# Altium footprint library transistor-fet.PCBLIB: 45 footprints (part 2 of 3)
Each footprint in its own frame and in the unit in brackets; x right, y up, seen from the top. Pads: shape width x height; smd on the part's side, far side on the other; paste and mask are expansions set on the pad; w line width, h text height; cw(c..) or ccw(c..) is an arc to the next point about the centre after c.
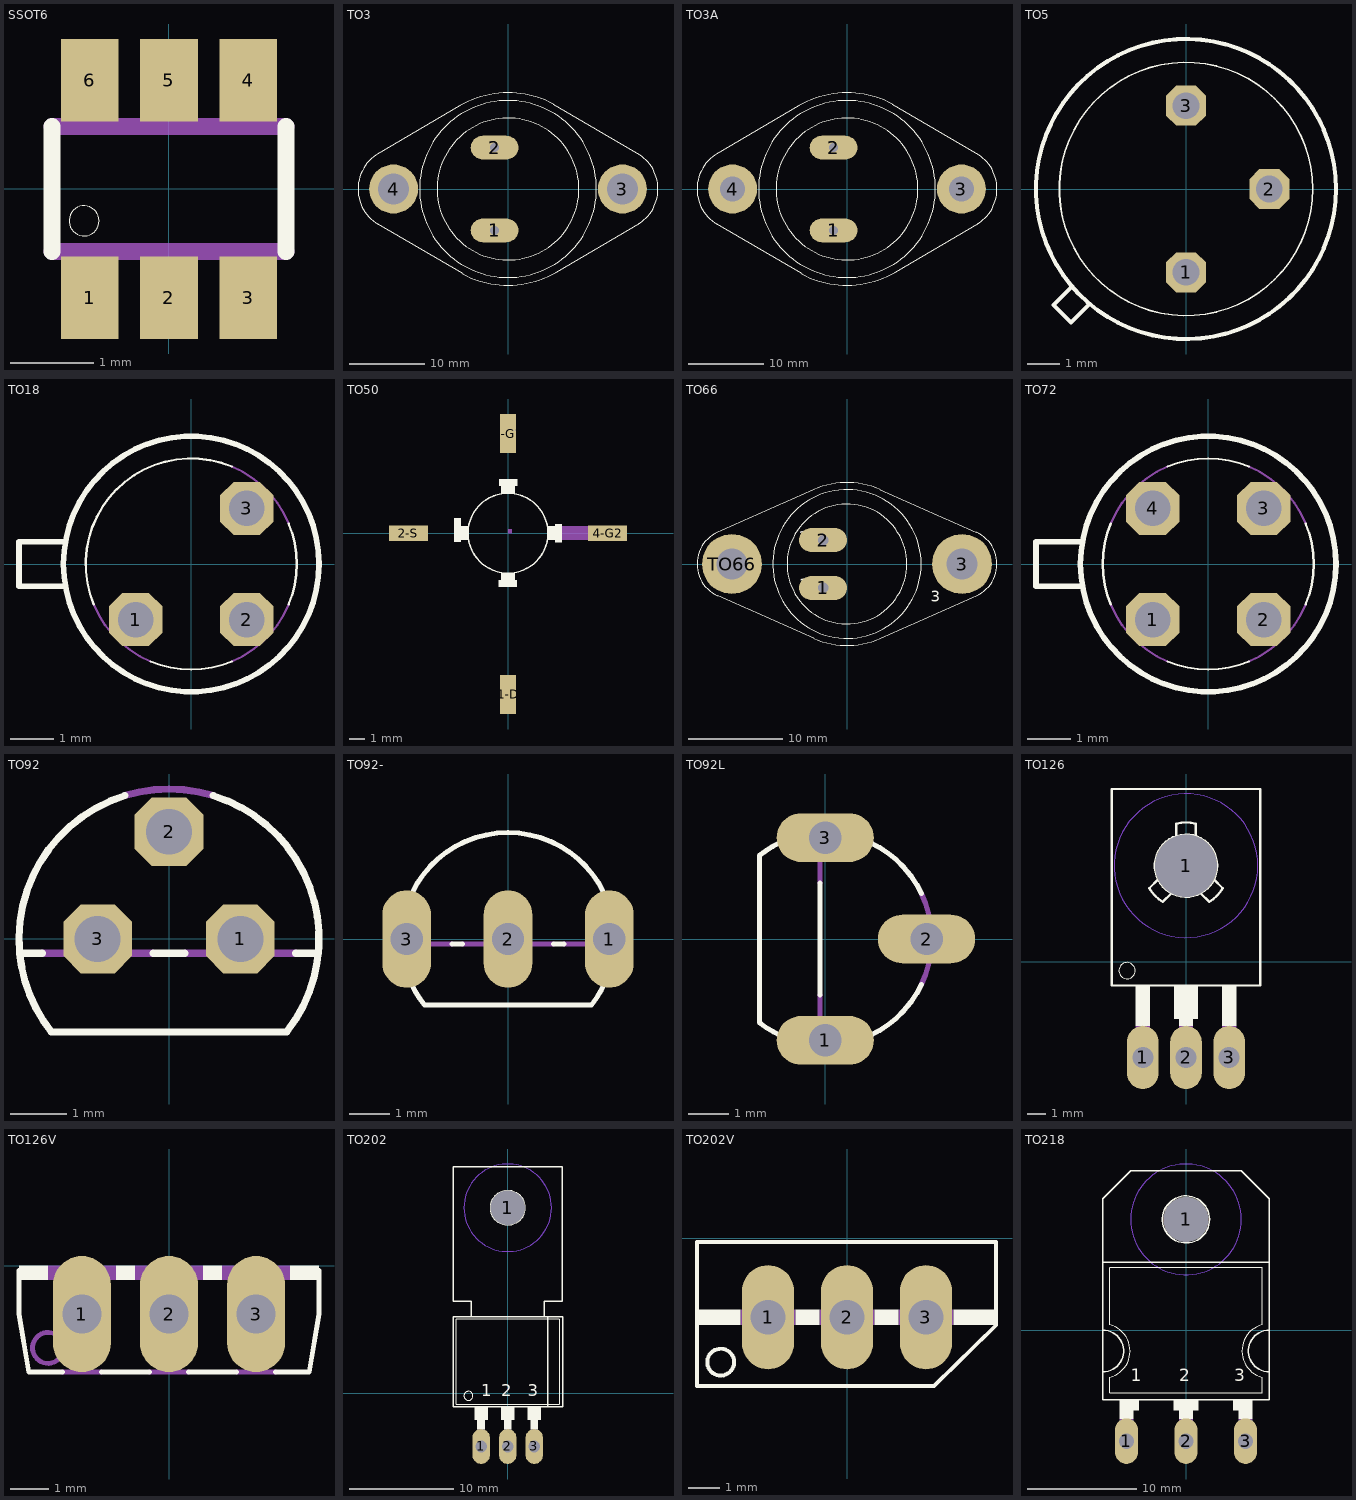
[diagram p1: the footprints below, top view; thin cyan lines are the x and y axes]

## SSOT6 [mil]
pads (6):
  rect 27.17x38.98 smd: 1(-37.4,-51.18) 2(0,-51.18) 3(37.4,-51.18) 4(37.4,51.18) 5(0,51.18) 6(-37.4,51.18)
Top Overlay:
  circle w0: c-40,-15 r7.07
  lines w8: -55.12,-29.53 -55.12,29.53 ; 55.12,-29.53 55.12,29.53
Mechanical 16:
  rectangle: -47.24,-59.06 -27.56,-31.5
  rectangle: -9.84,-59.06 9.84,-31.5
  rectangle: 27.56,-59.06 47.24,-31.5
  region: 47.24,59.06 27.56,59.06 27.56,31.5 47.24,31.5
  region: 9.84,59.06 -9.84,59.06 -9.84,31.5 9.84,31.5
  region: -27.56,59.06 -47.24,59.06 -47.24,31.5 -27.56,31.5
  lines w8: -55.12,-29.53 55.12,-29.53 ; -55.12,29.53 55.12,29.53

## TO3 [mil]
pads (4):
  oval 248x124 hole 47: 1(-70,-215) 2(-70,215)
  round 255 hole 162: 3(595,0) 4(-595,0)
Top Overlay:
  circle w5: c0,0 r369
  circle w2: c0,0 r460
  lines w5: -680,180 -250,433 ; -679,-181 -234,-442 ; -675.41,-183.35 cw(c-567,0) -780,0 cw(c-567,0) -672.94,184.78 ; -250.86,432.52 cw(c-0.01,0) 0,500 cw(c0.01,-0.01) 235.3,441.18 ; -235.3,-441.18 ccw(c-0.01,0.01) 0,-500 ccw(c0.01,0) 250.86,-432.52 ; 235,441 684,178 ; 251,-433 684,-178 ; 682.54,-178.94 ccw(c567,0) 780,0 ccw(c567,0) 682.54,178.94
Mechanical 16:
  circle w5: c595,0 r85
  circle w5: c-595,0 r85
  text "3" at 600,-195 h77.5
  text "1" at -200,-145 h77.5
  text "2" at -200,130 h77.5
  text "4" at -550,-195 h77.5

## TO3A [mil]
pads (4):
  oval 248x124 hole 47: 1(-70,-215) 2(-70,215)
  round 255 hole 130: 3(595,0) 4(-595,0)
Top Overlay:
  circle w5: c0,0 r369
  circle w2: c0,0 r460
  lines w5: -680,180 -250,433 ; -679,-181 -234,-442 ; -675.41,-183.35 cw(c-567,0) -780,0 cw(c-567,0) -672.94,184.78 ; -250.86,432.52 cw(c-0.01,0) 0,500 cw(c0.01,-0.01) 235.3,441.18 ; -235.3,-441.18 ccw(c-0.01,0.01) 0,-500 ccw(c0.01,0) 250.86,-432.52 ; 235,441 684,178 ; 251,-433 684,-178 ; 682.54,-178.94 ccw(c567,0) 780,0 ccw(c567,0) 682.54,178.94
Mechanical 16:
  circle w5: c595,0 r85
  circle w5: c-595,0 r85
  text "3" at 600,-195 h77.5
  text "2" at -150,180 h77.5
  text "1" at -150,-245 h77.5
  text "4" at -550,-195 h77.5

## TO5 [mil]
pads (3):
  oct 48x48 hole 32: 1(0,-100) 2(100,0) 3(0,100)
Top Overlay:
  circle w5: c0,0 r180
  circle w2: c0,0 r152
  lines w5: -138,-118 -159,-139 -138,-160 -117,-139

## TO18 [mil]
pads (3):
  oct 48x48 hole 32: 1(-50,-50) 2(50,-50) 3(50,50)
Top Overlay:
  circle w5: c0,0 r115
  lines w2: -87.68,-36.57 cw(c0,0) 36.57,87.68 ; -36.57,-87.68 ccw(c0,0) 36.57,-87.68 ; 87.68,-36.57 ccw(c0,0) 87.68,36.57
  lines w5: -113.25,-20 -155,-20 -155,20 -113.25,20
Mechanical 16:
  lines w2: -87.68,-36.57 ccw(c0,0) -36.57,-87.68 ; 36.57,-87.68 ccw(c0,0) 87.68,-36.57 ; 36.57,87.68 cw(c0,0) 87.68,36.57
  text "1" at -75,-50 h77.5
  text "2" at 25,-50 h77.5
  text "3" at 0,25 h77.5

## TO50 [mm]
pads (4):
  rect 1x2.5 smd: 1-D(0,-10.285) 3-G1(0,6.35)
  rect 2.5x1 smd: 2-S(-6.35,0) 4-G2(6.35,0)
Top Overlay:
  circle w0.102: c0,0 r2.55
  region: -3,0.975 -3.45,0.975 -3.45,-0.575 -3,-0.575
  rectangle: -3.025,-0.45 -2.55,0.45
  region: -0.6,-3 -0.6,-3.45 0.575,-3.45 0.575,-3
  region: 0.45,-3.025 0.45,-2.55 -0.45,-2.55 -0.45,-3.025
  region: -0.225,3.025 -0.225,2.55 0.225,2.55 0.225,3.025
  rectangle: 3,-0.6 3.45,0.575
  region: 3.025,0.45 2.55,0.45 2.55,-0.45 3.025,-0.45
  region: 0.6,3 0.6,3.45 -0.575,3.45 -0.575,3
  region: -0.45,3.025 -0.45,2.55 0.45,2.55 0.45,3.025
Mechanical 16:
  region: 7.55,0.45 3.35,0.45 3.35,-0.45 7.55,-0.45
  region: 0,0 0.254,0 0.254,0.254 0,0.254
  region: 0,0 0.254,0 0.254,0.254 0,0.254
  region: 0,0 0.254,0 0.254,0.254 0,0.254

## TO66 [mil]
pads (4):
  oval 200x100 hole 44: 1(-100,-100) 2(-100,100)
  round 250 hole 130: 3(480,0) TO66(-480,0)
Top Overlay:
  circle w2: c0,0 r310
  circle w5: c0,0 r250
  lines w5: -539.78,-132.55 cw(c-481,0) -539.78,132.55 -137.84,310.81 cw(c0,0) 137.84,310.81 539.78,132.55 cw(c481,0) 539.78,-132.55 137.84,-310.81 cw(c0,0) -137.84,-310.81 -539.78,-132.55
  text "3" at 350,-175 h77.5
  text "2" at -200,75 h77.5
  text "1" at -200,-125 h77.5
Mechanical 16:
  circle w5: c-480,0 r75
  circle w5: c480,0 r75

## TO72 [mil]
pads (4):
  oct 48x48 hole 32: 1(-50,-50) 2(50,-50) 3(50,50) 4(-50,50)
Top Overlay:
  circle w5: c0,0 r115
  lines w2: -87.68,-36.57 cw(c0,0) -87.68,36.57 ; -36.57,-87.68 ccw(c0,0) 36.57,-87.68 ; -36.57,87.68 cw(c0,0) 36.57,87.68 ; 87.68,-36.57 ccw(c0,0) 87.68,36.57
  lines w5: -114,-20 -155,-20 -155,20 -114,20
Mechanical 16:
  lines w2: -87.68,-36.57 ccw(c0,0) -36.57,-87.68 ; -87.68,36.57 cw(c0,0) -36.57,87.68 ; 36.57,-87.68 ccw(c0,0) 87.68,-36.57 ; 36.57,87.68 cw(c0,0) 87.68,36.57
  text "1" at -65,-65 h77.5
  text "2" at 20,-65 h77.5
  text "3" at 20,15 h77.5
  text "4" at -65,15 h77.5

## TO92 [mil]
pads (3):
  oct 48x48 hole 32: 1(50,0) 2(0,75) 3(-50,0)
Top Overlay:
  lines w5: -88.73,-10 -104.52,-10 ; -30.96,100.33 ccw(c0,0) -104.52,-10 ; -11.27,-10 11.27,-10 ; 30.96,100.33 cw(c0,0) 82.46,-65 -82.46,-65 cw(c0,0) -104.52,-10 ; 88.73,-10 104.52,-10
Mechanical 16:
  lines w5: -88.73,-10 -11.27,-10 ; -30.96,100.33 cw(c0,-0.02) 30.96,100.33 ; 11.27,-10 88.73,-10
  text "2" at -25,25 h77.5
  text "3" at -85,0 h77.5
  text "1" at 45,0 h77.5

## TO92- [mil]
pads (3):
  oval 48x96 hole 32: 1(100,0) 2(0,0) 3(-100,0)
Top Overlay:
  lines w5: -95,-44.72 ccw(c0,0.01) -82.46,-65 82.46,-65 ccw(c-0.01,0) 95.44,-43.77 ; -95,44.72 cw(c0,0) 95,44.72 ; -55.28,-5 -44.72,-5 ; 44.72,-5 55.28,-5
Mechanical 16:
  lines w5: -95,-44.72 cw(c0,0) -104.88,-5 ; -95,44.72 ccw(c0,0) -104.88,-5 ; -55.28,-5 -104.88,-5 ; -44.72,-5 44.72,-5 ; 55.28,-5 104.88,-5 ; 95,-44.72 ccw(c0,0) 104.88,-5 ; 95,44.72 cw(c0,0) 104.88,-5

## TO92L [mil]
pads (3):
  oval 96x48 hole 32: 1(0,-100) 2(100,0) 3(0,100)
Top Overlay:
  lines w5: -44.72,95 ccw(c0.01,0) -65,82.46 -65,-82.46 ccw(c0,0.01) -43.77,-95.44 ; -5,-55.28 -5,55.28 ; 44.72,-95 ccw(c0,0) 95,-44.72 ; 44.72,95 cw(c0,0) 95,44.72
Mechanical 16:
  lines w5: -44.72,-95 ccw(c0,0) -5,-104.88 ; -44.72,95 cw(c0,0) -5,104.88 ; -5,-55.28 -5,-104.88 ; -5,55.28 -5,104.88 ; 44.72,-95 cw(c0,0) -5,-104.88 ; 44.72,95 ccw(c0,0) -5,104.88 ; 95,-44.72 ccw(c0,0) 95,44.72

## TO126 [mil]
pads (4):
  oval 66x132 hole 44: 1(-90,-200) 2(0,-200) 3(90,-200)
  round 130 hole 130: 1(0,200)
Bottom Layer keep-out:
  circle w0: c0,200 r150
Top Overlay:
  circle w0: c-123,-19 r17
  circle w5: c0,200 r65
  rectangle: -25,-120 25,-50
  rectangle: -105,-135 -75,-50
  rectangle: -15,-135 15,-50
  rectangle: 75,-135 105,-50
  lines w5: -58.22,171.09 -76.74,152.98 ccw(c0,199.99) -48.79,124.37 -30.26,142.47 ; -20,261.85 -20,287.75 cw(c0,200) 20,287.75 20,261.85 ; 30.26,142.47 48.79,124.37 ccw(c0,199.99) 76.74,152.98 58.22,171.09 ; -155,-50 -155,360 155,360 155,-50 -155,-50
Mechanical 16:
  rectangle: -105,-205 -75,-135
  rectangle: -15,-205 15,-135
  rectangle: 75,-205 105,-135
  text "1" at -100,-35 h77.5
  text "2" at -20,-35 h77.5
  text "3" at 70,-35 h77.5
Via Holes:
  circle w0: c0,200 r150

## TO126V [mil]
pads (3):
  oval 60x120 hole 40: 1(-90,-50) 2(0,-50) 3(90,-50)
Top Overlay:
  rectangle: -155,-15 -125,0
  rectangle: -55,-15 -35,0
  rectangle: 35,-15 55,0
  rectangle: 125,-15 155,0
  lines w5: -155,-5 -155,-50 -145,-110 -110,-110 ; -70,-110 -20,-110 ; 20,-110 70,-110 ; 110,-110 145,-110 155,-50 155,-5
Mechanical 16:
  circle w5: c-125,-85 r16
  rectangle: -125,-15 -55,0
  rectangle: -35,-15 35,0
  rectangle: 55,-15 125,0
  lines w5: -110,-110 -70,-110 ; -20,-110 20,-110 ; 70,-110 110,-110
  text "1" at -100,-75 h77.5
  text "2" at -15,-75 h77.5
  text "3" at 80,-75 h77.5

## TO202 [mil]
pads (4):
  oval 66x132 hole 44: 1(-100,-200) 2(0,-200) 3(100,-200)
  round 130 hole 130: 1(0,700)
Bottom Layer keep-out:
  circle w0: c0,700 r165
Top Overlay:
  circle w0: c-148,-9 r17
  circle w5: c0,700 r65
  rectangle: -25,-100 25,-50
  rectangle: 75,-100 125,-50
  rectangle: -125,-100 -75,-50
  rectangle: 85,-135 115,-100
  rectangle: -15,-135 15,-100
  rectangle: -115,-135 -85,-100
  lines w2: -195,-40 195,-40 195,280 -195,280 -195,-40
  lines w5: -138,289 -138,347 -205,347 -205,855 205,855 205,347 138,347 138,289 ; -138,289 -205,289 -205,-50 151,-50 ; -138,289 138,289 ; 138,289 151,289 ; 151,-50 151,289 ; 151,-50 207,-50 207,289 151,289
  text "1" at -100,-25 h77.5
  text "2" at -25,-25 h77.5
  text "3" at 75,-25 h77.5
Mechanical 16:
  rectangle: 85,-200 115,-135
  rectangle: -15,-200 15,-135
  rectangle: -115,-200 -85,-135
Via Holes:
  circle w0: c0,700 r165

## TO202V [mil]
pads (3):
  oval 66x132 hole 44: 1(-100,-100) 2(0,-100) 3(100,-100)
Top Overlay:
  circle w5: c-160,-157 r17
  rectangle: 135,-110 190,-90
  rectangle: 35,-110 65,-90
  rectangle: -65,-110 -35,-90
  rectangle: -190,-110 -135,-90
  lines w5: -190,-187 110,-187 189,-110 189,-5 -190,-5 -190,-187
Mechanical 16:
  rectangle: -135,-110 -65,-90
  rectangle: -35,-110 35,-90
  rectangle: 65,-110 135,-90
  text "1" at -125,-75 h77.5
  text "2" at -25,-75 h77.5
  text "3" at 75,-75 h77.5

## TO218 [mil]
pads (4):
  oval 82.5x165 hole 55: 1(-215,-400) 2(0,-400) 3(215,-400)
  round 162 hole 162: 1(0,400)
Bottom Layer keep-out:
  circle w0: c0,400 r200
Top Overlay:
  circle w5: c0,400 r85
  rectangle: -240,-290 -170,-250
  rectangle: 170,-290 240,-250
  rectangle: -45,-290 45,-250
  rectangle: -240,-320 -190,-250
  rectangle: -25,-320 25,-250
  rectangle: 190,-320 240,-250
  lines w2: 273.71,19.65 ccw(c300,-75) 275,-169.99 275,-225 -275,-225 -275,-170 ccw(c-300,-75) -275,20 -275,225 275,225 275,20
  lines w5: -300,-150 -300,-250 300,-250 300,-150 ; -300,-150 -300,0 ; -300,-150 ccw(c-300,-75) -300,0 ; -300,0 -300,245 ; -300,245 300,245 ; -300,245 -300,475 -200,575 200,575 300,475 300,245 ; 300,-150 300,0 ; 300,-150 cw(c300,-75) 300,0 ; 300,0 300,245
  text "1" at -200,-200 h77.5
  text "2" at -25,-200 h77.5
  text "3" at 175,-200 h77.5
Mechanical 16:
  rectangle: -240,-405 -190,-320
  rectangle: -25,-405 25,-320
  rectangle: 190,-405 240,-320
Via Holes:
  circle w0: c0,400 r200